# EAGLE library part LT5560 (library VNA)
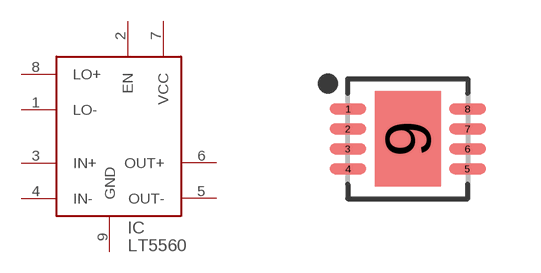
[diagram p18: symbol with the pads of SON50P300X300X80-9T165X238; footprint SON50P300X300X80-9T165X238]

Designator prefix IC

## LT5560  [SON50P300X300X80-9T165X238]
1  LO-
2  EN
3  IN+
4  IN-
5  OUT-
6  OUT+
7  VCC
8  LO+
9  GND

## Footprint SON50P300X300X80-9T165X238 (pad centres in mm)
8-SON, 0.50 mm pitch, 3.00 X 3.00 X 0.80 mm body, 2.38 X 1.65 mm thermal pad 8-pin SON package with 0.50 mm pitch with body size 3.00 X 3.00 X 0.80 mm and thermal pad size 2.38 X 1.65 mm
smd 0.917 x 0.27: 1 -1.497,0.75; 2 -1.497,0.25; 3 -1.497,-0.25; 4 -1.497,-0.75; 5 1.497,-0.75; 6 1.497,-0.25; 7 1.497,0.25; 8 1.497,0.75
smd 1.65 x 2.38: 9 0,0